# Altium schematic symbol library TS5A4595.SchLib: 1 symbol
Pins are listed as number, name and electrical type; pins without a type are passive.

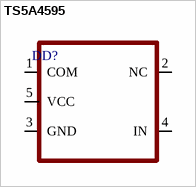
[diagram p0: symbol TS5A4595]

## TS5A4595
designator DD?
pins: 1 COM, 2 NC, 3 GND, 4 IN, 5 VCC